# EAGLE library part MS-500F (library Traficon)
DPDT - TOGGLE SWITCH Manufacturer: Miyama Rating: 6A/125VAC Distributor: D'Tron
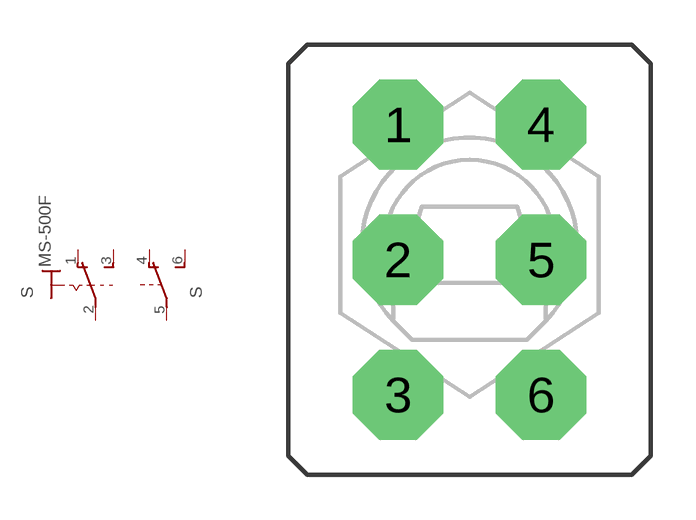
[diagram p48: symbol with the pads of MS-500F; footprint MS-500F]

Designator prefix S; gates B=U2 1=KS-U-

## MS-500F  [MS-500F]
1  1:1  pas
2  1:P  pas
3  1:3  pas
4  B:O  pas
5  B:P  pas
6  B:S  pas

## Footprint MS-500F (pad centres in mm)
TOGGLE SWITCH distributor RS Components
drill 2.007 octagon: 1 -2.388,4.013; 2 -2.388,-0.5; 3 -2.388,-5.013; 4 2.388,4.013; 5 2.388,-0.5; 6 2.388,-5.013